# EAGLE library part IR2110 (library PWM)
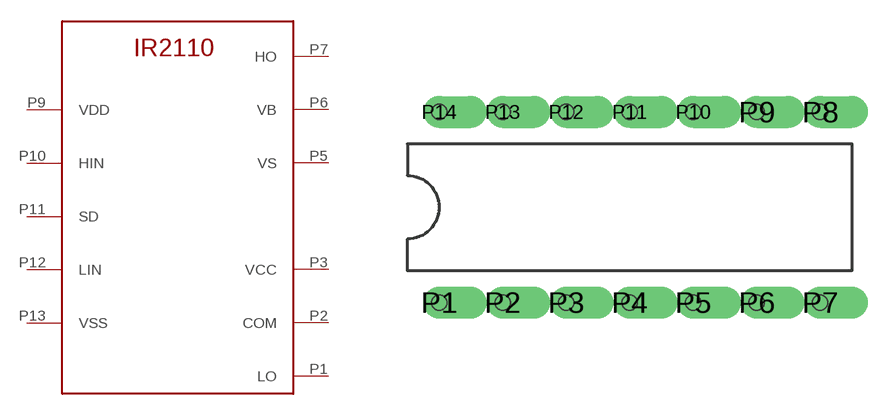
[diagram p2: symbol with the pads of DIL14-1; footprint DIL14-1]

Designator prefix -

## IR2110N  [DIL14-1]
P1  LO
P2  COM
P3  VCC
P5  VS
P6  VB
P7  HO
P9  VDD
P10  HIN
P11  SD
P12  LIN
P13  VSS

## Footprint DIL14-1 (pad centres in mm)
14-pin package
drill 0.406 pad 1.27 offset: P1 -8.89,-3.81; P2 -6.35,-3.81; P3 -3.81,-3.81; P4 -1.27,-3.81; P5 1.27,-3.81; P6 3.81,-3.81; P7 6.35,-3.81; P8 6.35,3.81; P9 3.81,3.81; P10 1.27,3.81; P11 -1.27,3.81; P12 -3.81,3.81; P13 -6.35,3.81; P14 -8.89,3.81
hole 0.61 at -8.89,-3.81
hole 0.61 at -6.35,-3.81
hole 0.61 at -3.81,-3.81
hole 0.61 at -1.27,-3.81
hole 0.61 at 1.27,-3.81
hole 0.61 at 3.81,-3.81
hole 0.61 at 6.35,-3.81
hole 0.61 at 6.35,3.81
hole 0.61 at 3.81,3.81
hole 0.61 at 1.27,3.81
hole 0.61 at -1.27,3.81
hole 0.61 at -3.81,3.81
hole 0.61 at -6.35,3.81
hole 0.61 at -8.89,3.81